# Altium integrated library SMA.IntLib: 1 symbol
Pins are listed as number, name and electrical type; pins without a type are passive.

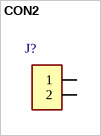
[diagram p0: symbol CON2]

## CON2
designator J?, comment SMA-15  (value not drawn)
ID: SMA-15; PDF: http://www.tme.eu/pl/Document/09b408c41d312148b58f72df3a6eecd2/sma-15.pdf; PRICE: 4,76 z³; BUY_LINK: http://www.tme.eu/pl/details/sma-15/zlacza-sma-smb-smc/#tc11aaaf92d4158e03fcd9e782454bb6a
footprint SMA_CON
pins: 1, 2